# EAGLE library part DS1388* (library IC)
http://search.digikey.com/scripts/DkSearch/dksus.dll?Detail&name=DS1388Z-33%2B-ND
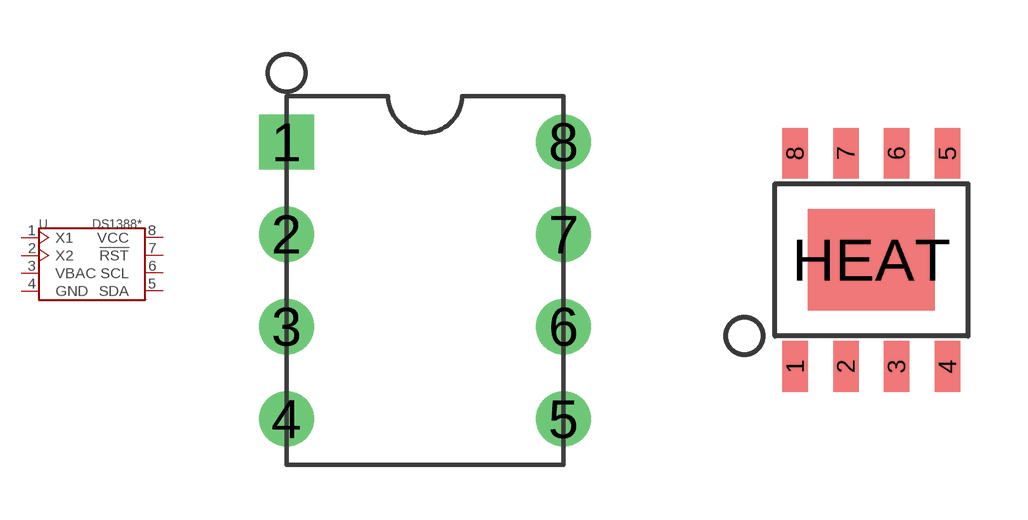
[diagram p47: symbol with the pads of DIP08; footprints DIP08, SOP8]

Designator prefix U

## DS1388-DIP08  [DIP08]
1  X1  pas
2  X2  pas
3  VBAC
4  GND
5  SDA
6  SCL
7  !RST
8  VCC

## DS1388-SOP08  [SOP8]
Pads as for DIP08

## Footprint DIP08 (pad centres in mm)
drill 0.813 pad 1.524 square: 1 -3.81,3.81
drill 0.813 pad 1.524: 2 -3.81,1.27; 3 -3.81,-1.27; 4 -3.81,-3.81; 5 3.81,-3.81; 6 3.81,-1.27; 7 3.81,1.27; 8 3.81,3.81

## Footprint SOP8 (pad centres in mm)
smd 0.635 x 1.27: 1 -1.905,-2.667; 2 -0.635,-2.667; 3 0.635,-2.667; 4 1.905,-2.667; 5 1.905,2.667; 6 0.635,2.667; 7 -0.635,2.667; 8 -1.905,2.667
smd 3.175 x 2.54: HEAT 0,0